# Altium schematic symbol library 39-30-1060.SchLib: 1 symbol
Pins are listed as number, name and electrical type; pins without a type are passive.

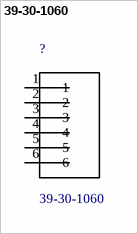
[diagram p0: symbol 39-30-1060]

## 39-30-1060
designator ?
Conn Power HDR 6 POS 4.2mm Solder RA Thru-Hole 6 Terminal 1 Port Mini-Fit Jrâ„¢ Bag; MF: Molex; Price: None; Package: None; MP: 39-30-1060; SnapEDA_Link: https://www.snapeda.com/parts/39-30-1060/Molex/view-part/?ref=snap; Availability: Unavailable; Value: *
footprint *POS-6
pins: 1, 2, 3, 4, 5, 6